# Altium footprint library Inductance.PcbLib: 3 footprints
Each footprint in its own frame and in the unit in brackets; x right, y up, seen from the top. Pads: shape width x height; smd on the part's side, far side on the other; paste and mask are expansions set on the pad; w line width, h text height; cw(c..) or ccw(c..) is an arc to the next point about the centre after c.
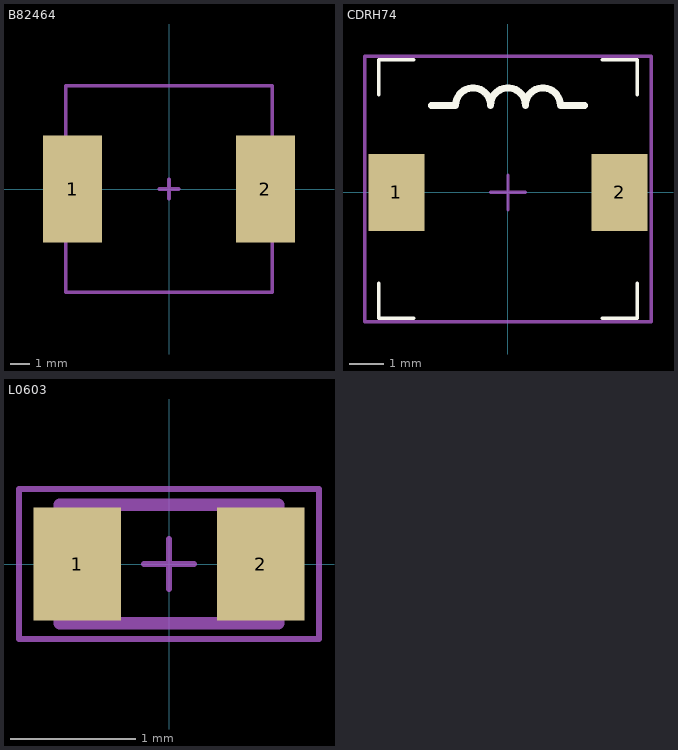
[diagram p0: the footprints below, top view; thin cyan lines are the x and y axes]

## B82464 [mm] "Epcos"
pads (2):
  rect 3.1x5.6 smd: 1(-5.05,0) 2(5.05,0)
Mechanical 11:
  lines w0.2: -0.5,0 0.5,0 ; 0,-0.5 0,0.5 ; -5.4,-5.4 5.4,-5.4 5.4,5.4 -5.4,5.4 -5.4,-5.4
3D body "User Library-B82464G4.STEP": height 4.81, standoff 0, extent -5.2,-5.2 5.2,5.2

## CDRH74 [mm]
pads (2):
  rect 1.6x2.2 smd: 1(-3.2,0) 2(3.2,0)
Top Overlay:
  lines w0.1: -3.7,-2.6 -3.7,-3.6 -2.7,-3.6 ; -3.7,2.8 -3.7,3.8 -2.7,3.8 ; 2.7,-3.6 3.7,-3.6 3.7,-2.6 ; 2.7,3.8 3.7,3.8 3.7,2.8
  lines w0.2: -2.2,2.5 -1.5,2.5 cw(c-1,2.5) -0.5,2.5 cw(c0,2.5) 0.5,2.5 cw(c1,2.5) 1.5,2.5 2.2,2.5
Mechanical 15:
  lines w0.1: -0.5,0 0.5,0 ; 0,-0.5 0,0.5 ; -4.1,-3.7 -4.1,3.9 4.1,3.9 4.1,-3.7 -4.1,-3.7
3D body "User Library-CDRH74NP-220MC.STEP": height 4.5, standoff 0, extent -3.65,-3.55 3.65,3.75

## L0603 [mm]
pads (2):
  rect 0.7x0.9 smd: 1(-0.732,0) 2(0.733,0)
Mechanical 13:
  lines w0.1: -0.875,-0.475 0.875,-0.475 0.875,0.475 -0.875,0.475 -0.875,-0.475
Mechanical 15:
  lines w0.05: -0.2,0 0.2,0 ; 0,-0.2 0,0.2 ; -1.2,-0.6 -1.2,0.6 1.2,0.6 1.2,-0.6 -1.2,-0.6
3D body "L0603.step": height 0.95, standoff 0, extent -0.875,-0.475 0.875,0.475